# EAGLE library part NT3H1101 (library AlterNail)
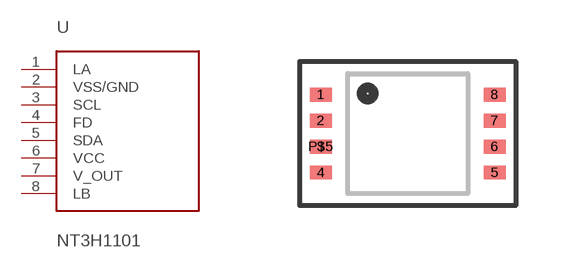
[diagram p0: symbol with the pads of NT3H1101; footprint NT3H1101]

Designator prefix U

## NT3H1101  [NT3H1101]
1  LA
2  VSS/GND  pwr
3  SCL
4  FD
5  SDA
6  VCC  pwr
7  V_OUT  pwr
8  LB

## Footprint NT3H1101 (pad centres in mm)
smd 0.55 x 0.35: 1 -2.175,0.975; 2 -2.175,0.325; 3 -2.175,-0.325; 4 -2.175,-0.975; 5 2.175,-0.975; 6 2.175,-0.325; 7 2.175,0.325; 8 2.175,0.975; P$5 -2.175,-0.325